# Altium integrated library Ferrite Bead.IntLib: 1 symbol
Pins are listed as number, name and electrical type; pins without a type are passive.

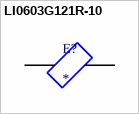
[diagram p0: symbol LI0603G121R-10]

## LI0603G121R-10
designator E?
120 Ohms @ 100 MHz 1 Power, Signal Line Ferrite Bead 0603 (1608 Metric) 700mA 200mOhm; MF: Laird; MP: LI0603G121R-10; Purchase-URL: https://pricing.snapeda.com/search/part/LI0603G121R-10/?ref=eda; SnapEDA_Link: https://www.snapeda.com/parts/LI0603G121R-10/Laird/view-part/?ref=snap; Package: 0603 Laird; Price: None; Value: *; Availability: In Stock; Check_prices: https://www.snapeda.com/parts/LI0603G121R-10/Laird/view-part/?ref=eda
footprint FB_LI0603G121R-10
pins: 1, 2